# Altium schematic symbol library IC. Gate driver.SchLib: 13 symbols
Pins are listed as number, name and electrical type; pins without a type are passive.

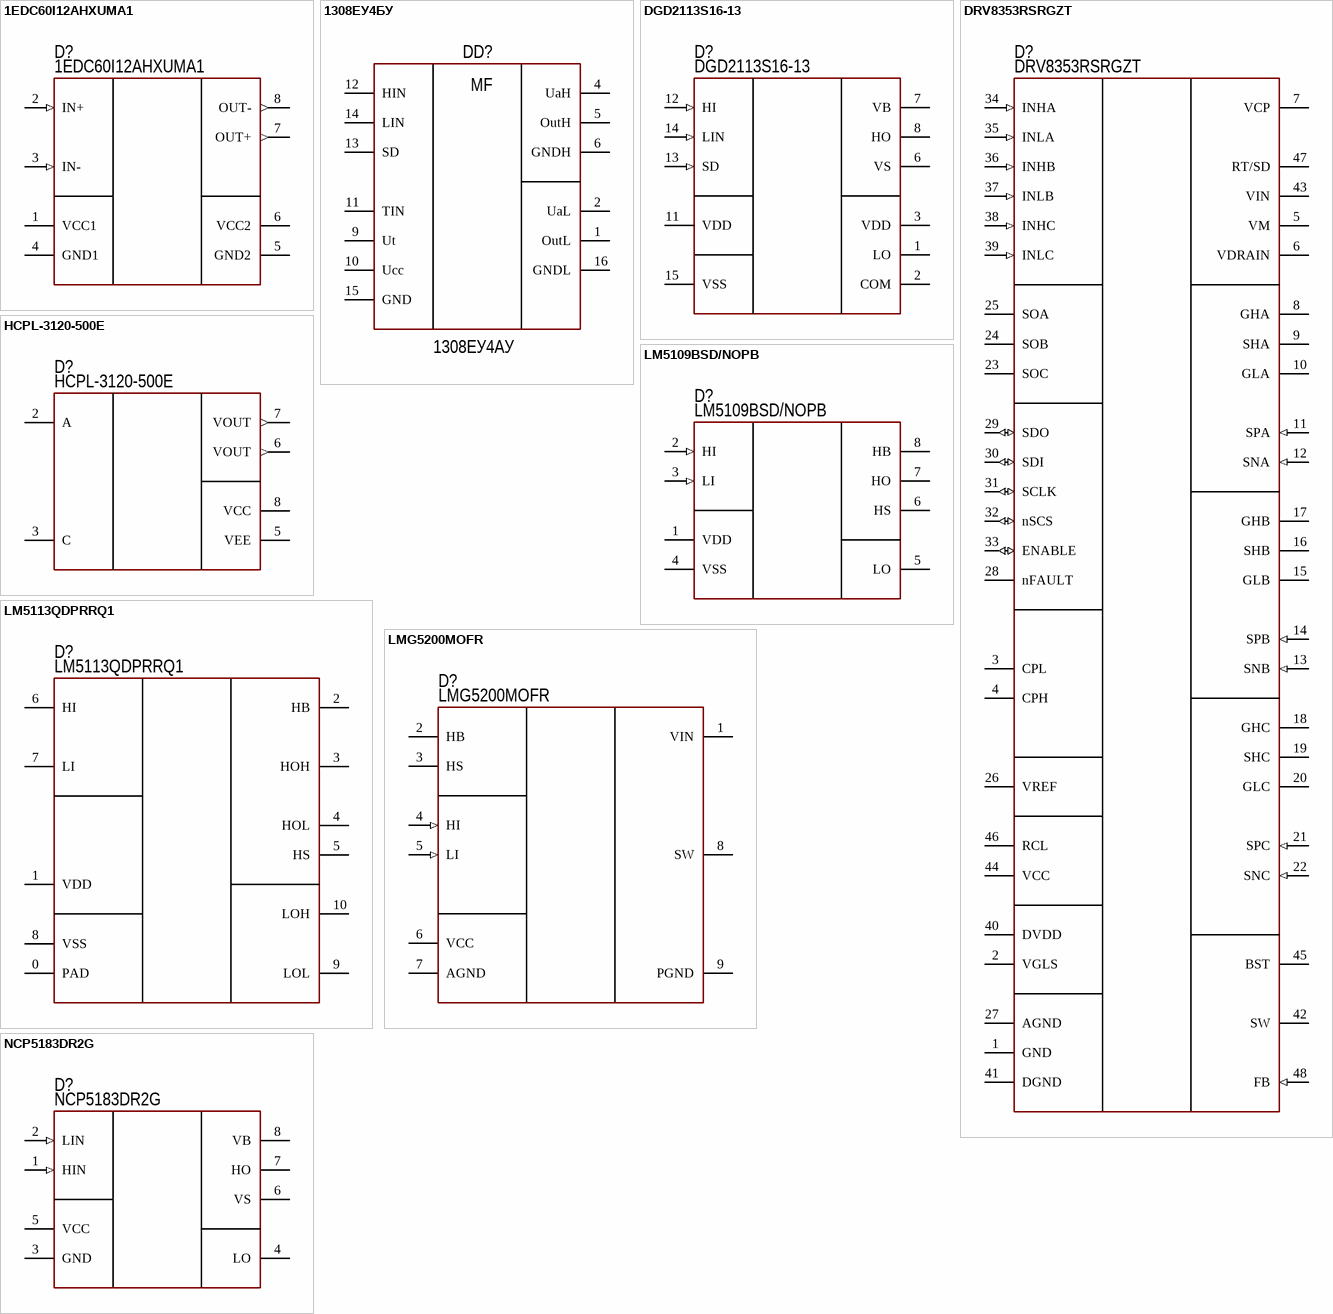
[diagram p0: symbols 1EDC60I12AHXUMA1 to NCP5183DR2G]

## 1EDC60I12AHXUMA1
designator D?  PartNumber: 1EDC60I12AHXUMA1
Gate driver; Manufacturer: Infineon Technologies; ValueManufacturerPartNumber: Isolator gate driver, 1200V, 1MHz, ±6A, 100kV/μs, supply 13...35V, -40...+150°C, 8-SOIC; VoltageSupply: supply 13...35V; Frequency: 1MHz; CurrentOutput: ±6A; VoltageWork: 1200V; CMTI: 100kV/μs; HelpURL: https://www.digikey.com/product-detail/en/infineon-technologies/1EDC60I12AHXUMA1/1EDC60I12AHXUMA1CT-ND/8629184; Package: 8-SOIC; ComponentType: Isolator gate driver; Temperature: -40...+150°C
footprint 8-SOIC-W (pitch 1.27 mm, isolator)
pins: 1 VCC1, 2 IN+ (in), 3 IN- (in), 4 GND1, 5 GND2, 6 VCC2, 7 OUT+ (out), 8 OUT- (out)

## 1308ЕУ4БУ
designator DD?  PartNumber: 1308ЕУ4АУ
Gate driver; Manufacturer: Кремний Эл; VoltageSupply: supply 4...15V; CurrentOutput: 2A; Analog: IR2113 IR; HelpURL: http://caxapa.ru/parts/files/1SHKtJ3.pdf; Package: Н04.16-2В; ComponentType: Hight&Low side gate driver; ValueManufacturerPartNumber: =ComponentType+', '+VoltageWork+', '+Frequency+', '+CurrentOutput+', '+VoltageSupply+', '+Temperature+', '+Package
footprint 16-H04.16-1B (USSR)
pins: 1 OutL, 2 UaL, 4 UaH, 5 OutH, 6 GNDH, 9 Ut, 10 Ucc, 11 TIN, 12 HIN, 13 SD, 14 LIN, 15 GND, 16 GNDL
text: MF

## DGD2113S16-13
designator D?  PartNumber: DGD2113S16-13
Gate driver; Manufacturer: Diodes Incorporated; ValueManufacturerPartNumber: Half-bridge gate driver, 600V, 500kHz, ±2.5A, supply 10...20V, -40...+150°C, 16-SOIC; VoltageSupply: supply 10...20V; Frequency: 500kHz; CurrentOutput: ±2.5A; VoltageWork: 600V; HelpURL: https://www.digikey.com/product-detail/en/diodes-incorporated/DGD2113S16-13/DGD2113S16-13DICT-ND/5823602; Package: 16-SOIC; ComponentType: Half-bridge gate driver; Temperature: -40...+150°C
footprint 16-SO (pitch 1.27 mm)
pins: 1 LO, 2 COM, 3 VDD, 6 VS, 7 VB, 8 HO, 11 VDD (power), 12 HI (in), 13 SD (in), 14 LIN (in), 15 VSS

## DRV8353RSRGZT
designator D?  PartNumber: DRV8353RSRGZT
Motor control; Manufacturer: Texas Instruments; ValueManufacturerPartNumber: Motor control, load 9...75V, 200kHz, ±2A, supply 6...95V, -40...+125°C, 48-QFN; VoltageSupply: supply 6...95V; Frequency: 200kHz; CurrentOutput: ±2A; VoltageWork: load 9...75V; HelpURL: https://www.digikey.com/product-detail/en/texas-instruments/DRV8353RSRGZT/296-50273-1-ND/9654095; Package: 48-QFN; ComponentType: Motor control; Temperature: -40...+125°C
footprint 48-QFN (7x7) (7x7 mm, pitch 0.5 mm, power pad)
pins: 1 GND, 2 VGLS, 3 CPL, 4 CPH, 5 VM, 6 VDRAIN, 7 VCP, 8 GHA, 9 SHA, 10 GLA, 11 SPA (in), 12 SNA (in), 13 SNB (in), 14 SPB (in), 15 GLB, 16 SHB, 17 GHB, 18 GHC, 19 SHC, 20 GLC, 21 SPC (in), 22 SNC (in), 23 SOC, 24 SOB, 25 SOA, 26 VREF, 27 AGND, 28 nFAULT, 29 SDO (io), 30 SDI (io), 31 SCLK (io), 32 nSCS (io), 33 ENABLE (io), 34 INHA (in), 35 INLA (in), 36 INHB (in), 37 INLB (in), 38 INHC (in), 39 INLC (in), 40 DVDD, 41 DGND, 42 SW, 43 VIN, 44 VCC, 45 BST, 46 RCL, 47 RT/SD, 48 FB (in)

## HCPL-3120-500E
designator D?  PartNumber: HCPL-3120-500E
Gate driver; Manufacturer: Broadcom Limited; ValueManufacturerPartNumber: Isolator gate driver, 1200V, 100kHz, ±2.5A, 25kV/μs, supply 15...30V, -40...+100°C, 8-SMD; VoltageSupply: supply 15...30V; Frequency: 100kHz; CurrentOutput: ±2.5A; VoltageWork: 1200V; CMTI: 25kV/μs; HelpURL: https://www.digikey.com/product-detail/en/broadcom-limited/HCPL-3120-500E/516-1789-1-ND/1966495; Package: 8-SMD; ComponentType: Isolator gate driver; Temperature: -40...+100°C
footprint IC: HCPL-3120
pins: 2 A, 3 C, 5 VEE, 6 VOUT (out), 7 VOUT (out), 8 VCC

## LM5109BSD/NOPB
designator D?  PartNumber: LM5109BSD/NOPB
Gate driver; Manufacturer: Texas Instruments; ValueManufacturerPartNumber: Half-bridge gate driver, 108V, 500kHz, ±1A, supply 8...14V, -40...+125°C, 8-WSON; VoltageSupply: supply 8...14V; Frequency: 500kHz; CurrentOutput: ±1A; VoltageWork: 108V; HelpURL: https://www.digikey.com/product-detail/en/texas-instruments/LM5109BSD-NOPB/LM5109BSD-NOPBCT-ND/1628697; Package: 8-WSON; ComponentType: Half-bridge gate driver; Temperature: -40...+125°C
footprint 8-WSON (4x4) (4x4 mm, pitch 0.8 mm, power pad)
pins: 1 VDD, 2 HI (in), 3 LI (in), 4 VSS, 5 LO, 6 HS, 7 HO, 8 HB

## LM5113QDPRRQ1
designator D?  PartNumber: LM5113QDPRRQ1
GaN gate driver; Manufacturer: Texas Instruments; ValueManufacturerPartNumber: GaN gate driver, 100V, 2MHz, +1.2/-5A, supply 4.5...5.5V, -40...+125°C, 10-WSON; VoltageSupply: supply 4.5...5.5V; Frequency: 2MHz; CurrentOutput: +1.2/-5A; VoltageWork: 100V; HelpURL: https://www.digikey.com/product-detail/en/texas-instruments/LM5113QDPRRQ1/296-51311-1-ND/9745675; Package: 10-WSON; ComponentType: GaN gate driver; Temperature: -40...+125°C
footprint 10-WSON (4x4 mm, pitch 0.5 mm, power pad)
pins: 0 PAD, 1 VDD, 2 HB, 3 HOH, 4 HOL, 5 HS, 6 HI, 7 LI, 8 VSS, 9 LOL, 10 LOH

## LMG5200MOFR
designator D?  PartNumber: LMG5200MOFR
Module GaN; Manufacturer: Texas Instruments; ValueManufacturerPartNumber: GaN power module, 80V, 4MHz, 10A, supply 4.75...5.25V, -40...+125°C, 9-QFN; VoltageSupply: supply 4.75...5.25V; Frequency: 4MHz; CurrentOutput: 10A; VoltageWork: 80V; HelpURL: https://www.digikey.com/product-detail/en/texas-instruments/LMG5200MOFR/296-46617-1-ND/7203901; Package: 9-QFN; ComponentType: GaN power module; Temperature: -40...+125°C
footprint IC: LMG5200
pins: 1 VIN, 2 HB, 3 HS, 4 HI (in), 5 LI (in), 6 VCC, 7 AGND, 8 SW, 9 PGND

## NCP5183DR2G
designator D?  PartNumber: NCP5183DR2G
Gate driver; Manufacturer: ON Semiconductor; ValueManufacturerPartNumber: Half-bridge gate driver, 600V, 500kHz, ±4.3A, supply 9...18V, -40...+125°C, 8-SOIC; VoltageSupply: supply 9...18V; Frequency: 500kHz; CurrentOutput: ±4.3A; VoltageWork: 600V; HelpURL: https://www.digikey.com/product-detail/en/on-semiconductor/NCP5183DR2G/NCP5183DR2GOSCT-ND/7066807; Package: 8-SOIC; ComponentType: Half-bridge gate driver; Temperature: -40...+125°C
footprint 8-SOIC (pitch 1.27 mm)
pins: 1 HIN (in), 2 LIN (in), 3 GND, 4 LO, 5 VCC, 6 VS, 7 HO, 8 VB

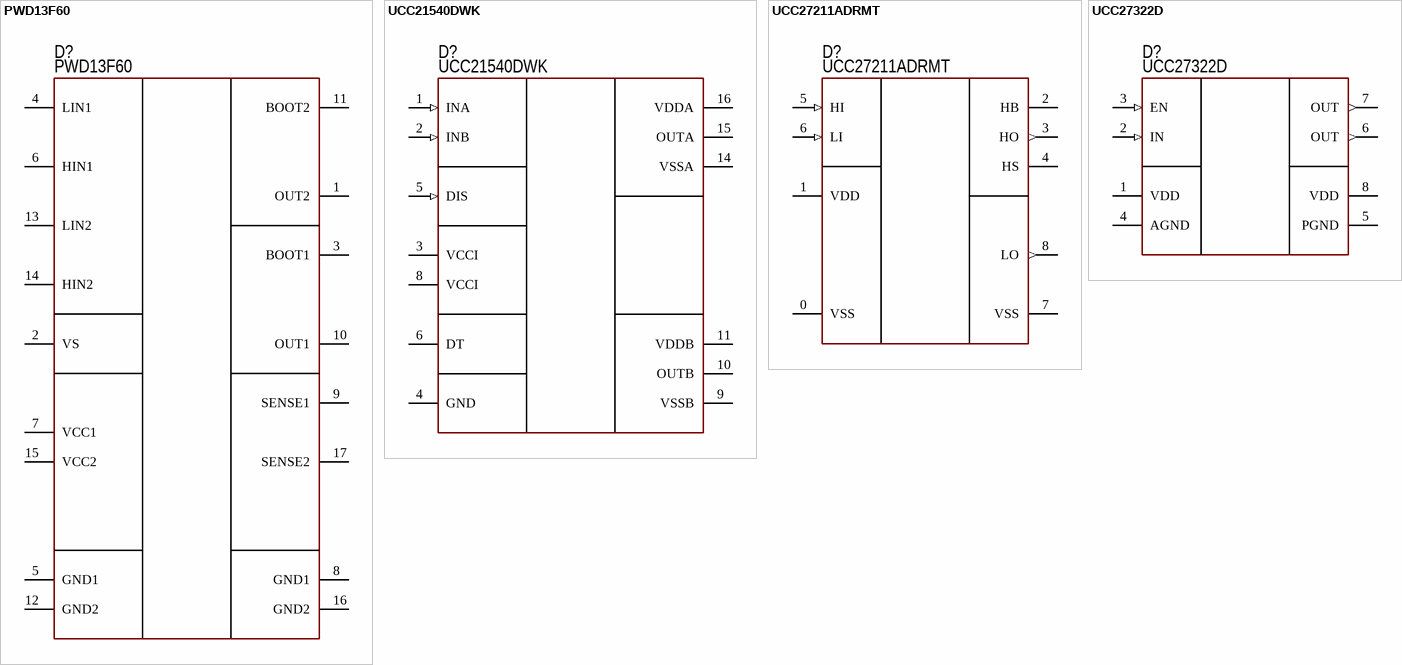
[diagram p1: symbols PWD13F60 to UCC27322D]

## PWD13F60
designator D?  PartNumber: PWD13F60
Module MOSFET; Manufacturer: STMicroelectronics; ValueManufacturerPartNumber: MOSFET power module, 600V, 1MHz, 8A, supply 6.5...15V, -40...+125°C, 28-PowerVQFN; VoltageSupply: supply 6.5...15V; Frequency: 1MHz; CurrentOutput: 8A; VoltageWork: 600V; HelpURL: https://www.digikey.com/product-detail/en/stmicroelectronics/PWD13F60/497-18514-ND/8257611; Package: 28-PowerVQFN; ComponentType: MOSFET power module; Temperature: -40...+125°C
footprint IC: PWD13F60
pins: 1 OUT2 (power), 2 VS (power), 3 BOOT1 (power), 4 LIN1 (power), 5 GND1 (power), 6 HIN1 (power), 7 VCC1 (power), 8 GND1 (power), 9 SENSE1 (power), 10 OUT1 (power), 11 BOOT2 (power), 12 GND2 (power), 13 LIN2 (power), 14 HIN2 (power), 15 VCC2 (power), 16 GND2 (power), 17 SENSE2 (power)

## UCC21540DWK
designator D?  PartNumber: UCC21540DWK
Gate driver; Manufacturer: Texas Instruments; ValueManufacturerPartNumber: Isolator gate driver, 1200V, 1MHz, +4/-6A, 100kV/μs, supply 3...5.5V, -40...+125°C, 14-SOIC; VoltageSupply: supply 3...5.5V; Frequency: 1MHz; CurrentOutput: +4/-6A; VoltageWork: 1200V; CMTI: 100kV/μs; HelpURL: https://ru.mouser.com/ProductDetail/Texas-Instruments/UCC21540DWK?qs=sGAEpiMZZMvQcoNRkxSQktujxjvo4yDbZkW1osG6lOI%3D; Package: 14-SOIC; ComponentType: Isolator gate driver; Temperature: -40...+125°C
footprint IC: UCC21540DWK (pitch 1.27 mm)
pins: 1 INA (in), 2 INB (in), 3 VCCI, 4 GND, 5 DIS (in), 6 DT, 8 VCCI, 9 VSSB, 10 OUTB, 11 VDDB, 14 VSSA, 15 OUTA, 16 VDDA

## UCC27211ADRMT
designator D?  PartNumber: UCC27211ADRMT
Gate driver; Manufacturer: Texas Instruments; ValueManufacturerPartNumber: Half-bridge gate driver, 120V, 500kHz, ±4A, supply 8...17V, -40...+125°C, 8-VSON; VoltageSupply: supply 8...17V; Frequency: 500kHz; CurrentOutput: ±4A; VoltageWork: 120V; HelpURL: https://www.digikey.com/product-detail/en/texas-instruments/UCC27211ADRMT/296-37013-1-ND/4430486; Package: 8-VSON; ComponentType: Half-bridge gate driver; Temperature: -40...+125°C
footprint 8-DFN (4х4) (4x4 mm, pitch 0.8 mm, power pad)
pins: 0 VSS (power), 1 VDD (power), 2 HB (power), 3 HO (out), 4 HS (power), 5 HI (in), 6 LI (in), 7 VSS (power), 8 LO (out)

## UCC27322D
designator D?  PartNumber: UCC27322D
Gate driver; Manufacturer: Texas Instruments; ValueManufacturerPartNumber: Low side gate driver, P+N channel, 500kHz, ±9A, supply 4...15V, -40...+125°C, 8-SOIC; VoltageSupply: supply 4...15V; Frequency: 500kHz; CurrentOutput: ±9A; VoltageWork: P+N channel; HelpURL: https://www.digikey.com/product-detail/en/texas-instruments/UCC27322D/296-13673-5-ND/509705; Package: 8-SOIC; ComponentType: Low side gate driver; Temperature: -40...+125°C
footprint 8-SOIC (pitch 1.27 mm)
pins: 1 VDD, 2 IN (in), 3 EN (in), 4 AGND, 5 PGND, 6 OUT (out), 7 OUT (out), 8 VDD